# Altium footprint library PCB - LEADED - SOP - MAXIM TSSOP-14 U14-2.PcbLib: 1 footprints
Each footprint in its own frame and in the unit in brackets; x right, y up, seen from the top. Pads: shape width x height; smd on the part's side, far side on the other; paste and mask are expansions set on the pad; w line width, h text height; cw(c..) or ccw(c..) is an arc to the next point about the centre after c.
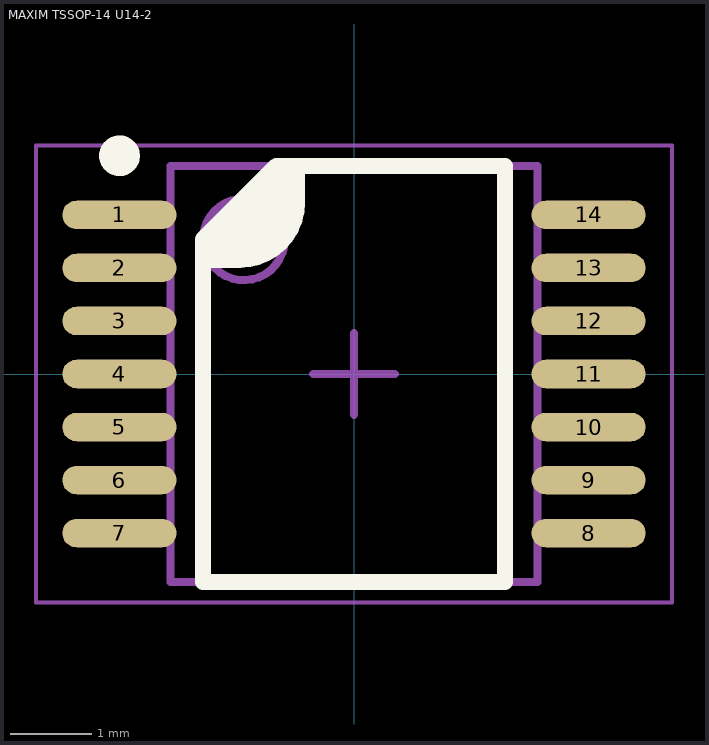
[diagram p0: the footprint, top view; thin cyan lines are the x and y axes]

## MAXIM TSSOP-14 U14-2 [mm] "TSSOP, 14-Leads, Body 5.00x4.40mm, Pitch 0.65mm, IPC Medium Density"
height 1.1
pads (14):
  oval 1.4x0.35 smd: 1(-2.875,1.95) 2(-2.875,1.3) 3(-2.875,0.65) 4(-2.875,0) 5(-2.875,-0.65) 6(-2.875,-1.3) 7(-2.875,-1.95) 8(2.875,-1.95) 9(2.875,-1.3) 10(2.875,-0.65) 11(2.875,0) 12(2.875,0.65) 13(2.875,1.3) 14(2.875,1.95)
Top Overlay:
  circle w0.25: c-2.875,2.675 r0.125
  region: -1.85,1.65 -0.95,2.55 -0.75,2.55 -0.7,2.5 -0.7,2.1 -0.7,2.031 -0.727,1.896 -0.78,1.768 -0.856,1.654 -0.954,1.556 -1.068,1.48 -1.196,1.427 -1.331,1.4 -1.4,1.4 -1.8,1.4
  lines w0.2: -1.8,1.4 -1.4,1.4 ccw(c-1.4,2.1) -0.7,2.1 -0.7,2.5 ; -1.85,-2.55 -1.85,1.65 -0.95,2.55 1.85,2.55 1.85,-2.55 -1.85,-2.55
Mechanical 13:
  circle w0.1: c-1.35,1.65 r0.5
  lines w0.1: -2.25,-2.55 2.25,-2.55 2.25,2.55 -2.25,2.55 -2.25,-2.55
Mechanical 15:
  lines w0.05: -3.9,-2.8 3.9,-2.8 3.9,2.8 -3.9,2.8 -3.9,-2.8
Mechanical 2 (Mech9):
  lines w0.1: -0.5,0 0.5,0 ; 0,-0.5 0,0.5
3D body "MAXIM TSSOP-14 U14-2.step": height 1.1, standoff 0, extent -3.2,-2.55 3.2,2.55